# EAGLE library part PC104_CONNECTOR (library template_board)
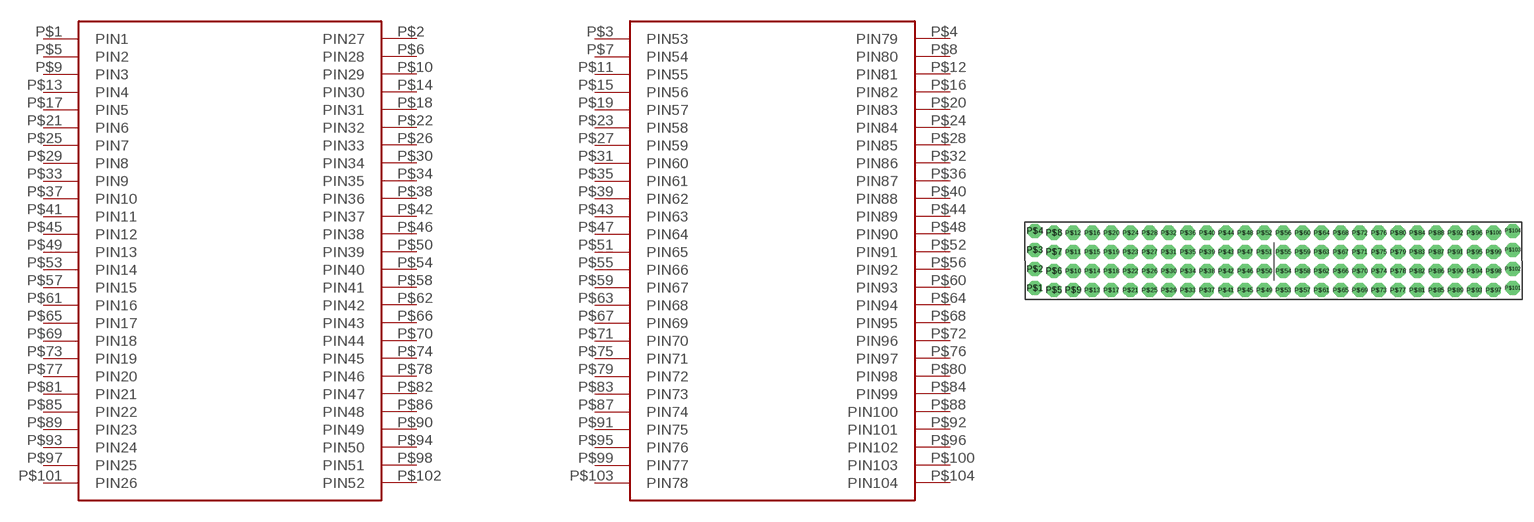
[diagram p3: symbol with the pads of PC104_CONNECTOR; footprint PC104_CONNECTOR]

Designator prefix -

## PC104_CONNECTOR  [PC104_CONNECTOR]
P$1  PIN1
P$2  PIN27
P$3  PIN53
P$4  PIN79
P$5  PIN2
P$6  PIN28
P$7  PIN54
P$8  PIN80
P$9  PIN3
P$10  PIN29
P$11  PIN55
P$12  PIN81
P$13  PIN4
P$14  PIN30
P$15  PIN56
P$16  PIN82
P$17  PIN5
P$18  PIN31
P$19  PIN57
P$20  PIN83
P$21  PIN6
P$22  PIN32
P$23  PIN58
P$24  PIN84
P$25  PIN7
P$26  PIN33
P$27  PIN59
P$28  PIN85
P$29  PIN8
P$30  PIN34
P$31  PIN60
P$32  PIN86
P$33  PIN9
P$34  PIN35
P$35  PIN61
P$36  PIN87
P$37  PIN10
P$38  PIN36
P$39  PIN62
P$40  PIN88
P$41  PIN11
P$42  PIN37
P$43  PIN63
P$44  PIN89
P$45  PIN12
P$46  PIN38
P$47  PIN64
P$48  PIN90
P$49  PIN13
P$50  PIN39
P$51  PIN65
P$52  PIN91
P$53  PIN14
P$54  PIN40
P$55  PIN66
P$56  PIN92
P$57  PIN15
P$58  PIN41
P$59  PIN67
P$60  PIN93
P$61  PIN16
P$62  PIN42
P$63  PIN68
P$64  PIN94
P$65  PIN17
P$66  PIN43
P$67  PIN69
P$68  PIN95
P$69  PIN18
P$70  PIN44
P$71  PIN70
P$72  PIN96
P$73  PIN19
P$74  PIN45
P$75  PIN71
P$76  PIN97
P$77  PIN20
P$78  PIN46
P$79  PIN72
P$80  PIN98
P$81  PIN21
P$82  PIN47
P$83  PIN73
P$84  PIN99
P$85  PIN22
P$86  PIN48
P$87  PIN74
P$88  PIN100
P$89  PIN23
P$90  PIN49
P$91  PIN75
P$92  PIN101
P$93  PIN24
P$94  PIN50
P$95  PIN76
P$96  PIN102
P$97  PIN25
P$98  PIN51
P$99  PIN77
P$100  PIN103
P$101  PIN26
P$102  PIN52
P$103  PIN78
P$104  PIN104

## Footprint PC104_CONNECTOR (pad centres in mm)
drill 0.953 pad 1.88 octagon: P$1 -31.75,34.674; P$2 -31.75,37.214; P$3 -31.75,39.754; P$4 -31.75,42.294; P$5 -29.21,34.42; P$6 -29.21,36.96; P$7 -29.21,39.5; P$8 -29.21,42.04; P$9 -26.67,34.42; P$10 -26.67,36.96; P$11 -26.67,39.5; P$12 -26.67,42.04; P$13 -24.13,34.42; P$14 -24.13,36.96; P$15 -24.13,39.5; P$16 -24.13,42.04; P$17 -21.59,34.42; P$18 -21.59,36.96; P$19 -21.59,39.5; P$20 -21.59,42.04; P$21 -19.05,34.42; P$22 -19.05,36.96; P$23 -19.05,39.5; P$24 -19.05,42.04; P$25 -16.51,34.42; P$26 -16.51,36.96; P$27 -16.51,39.5; P$28 -16.51,42.04; P$29 -13.97,34.42; P$30 -13.97,36.96; P$31 -13.97,39.5; P$32 -13.97,42.04; P$33 -11.43,34.42; P$34 -11.43,36.96; P$35 -11.43,39.5; P$36 -11.43,42.04; P$37 -8.89,34.42; P$38 -8.89,36.96; P$39 -8.89,39.5; P$40 -8.89,42.04; P$41 -6.35,34.42; P$42 -6.35,36.96; P$43 -6.35,39.5; P$44 -6.35,42.04; P$45 -3.81,34.42; P$46 -3.81,36.96; P$47 -3.81,39.5; P$48 -3.81,42.04; P$49 -1.27,34.42; P$50 -1.27,36.96; P$51 -1.27,39.5; P$52 -1.27,42.04; P$53 1.27,34.42; P$54 1.27,36.96; P$55 1.27,39.5; P$56 1.27,42.04; P$57 3.81,34.42; P$58 3.81,36.96; P$59 3.81,39.5; P$60 3.81,42.04; P$61 6.35,34.42; P$62 6.35,36.96; P$63 6.35,39.5; P$64 6.35,42.04; P$65 8.89,34.42; P$66 8.89,36.96; P$67 8.89,39.5; P$68 8.89,42.04; P$69 11.43,34.42; P$70 11.43,36.96; P$71 11.43,39.5; P$72 11.43,42.04; P$73 13.97,34.42; P$74 13.97,36.96; P$75 13.97,39.5; P$76 13.97,42.04; P$77 16.51,34.42; P$78 16.51,36.96; P$79 16.51,39.5; P$80 16.51,42.04; P$81 19.05,34.42; P$82 19.05,36.96; P$83 19.05,39.5; P$84 19.05,42.04; P$85 21.59,34.42; P$86 21.59,36.96; P$87 21.59,39.5; P$88 21.59,42.04; P$89 24.13,34.42; P$90 24.13,36.96; P$91 24.13,39.5; P$92 24.13,42.04; P$93 26.67,34.42; P$94 26.67,36.96; P$95 26.67,39.5; P$96 26.67,42.04; P$97 29.21,34.42; P$98 29.21,36.96; P$99 29.21,39.5; P$100 29.21,42.04; P$101 31.75,34.674; P$102 31.75,37.214; P$103 31.75,39.754; P$104 31.75,42.294